# EAGLE library part DF40C-10 (library con-Hirose)
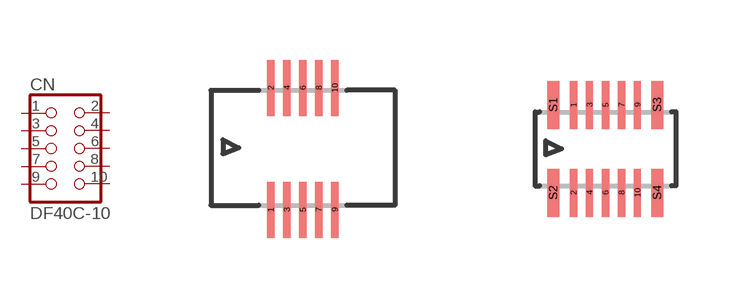
[diagram p2: symbol with the pads of DF40C-10DS; footprints DF40C-10DS, DF40C-10DP]

Designator prefix CN

## DF40C-10DS  [DF40C-10DS]
1  1  pas
2  2  pas
3  3  pas
4  4  pas
5  5  pas
6  6  pas
7  7  pas
8  8  pas
9  9  pas
10  10  pas

## DF40C-10DP  [DF40C-10DP]
Pads as for DF40C-10DS

## Footprint DF40C-10DS (pad centres in mm)
smd 0.18 x 1.4: 1 -0.8,-1.55; 2 -0.8,1.5; 3 -0.4,-1.55; 4 -0.4,1.5; 5 0,-1.55; 6 0,1.5; 7 0.4,-1.55; 8 0.4,1.5; 9 0.8,-1.55; 10 0.8,1.5

## Footprint DF40C-10DP (pad centres in mm)
smd 0.18 x 1.2: 1 -0.8,1.1; 2 -0.8,-1.1; 3 -0.4,1.1; 4 -0.4,-1.1; 5 0,1.1; 6 0,-1.1; 7 0.4,1.1; 8 0.4,-1.1; 9 0.8,1.1; 10 0.8,-1.1
smd 0.3 x 1.2: S1 -1.3,1.1; S2 -1.3,-1.1; S3 1.3,1.1; S4 1.3,-1.1